# Altium footprint library 贴片元器件.PCBLIB: 208 footprints (part 10 of 13)
Each footprint in its own frame and in the unit in brackets; x right, y up, seen from the top. Pads: shape width x height; smd on the part's side, far side on the other; paste and mask are expansions set on the pad; w line width, h text height; cw(c..) or ccw(c..) is an arc to the next point about the centre after c.
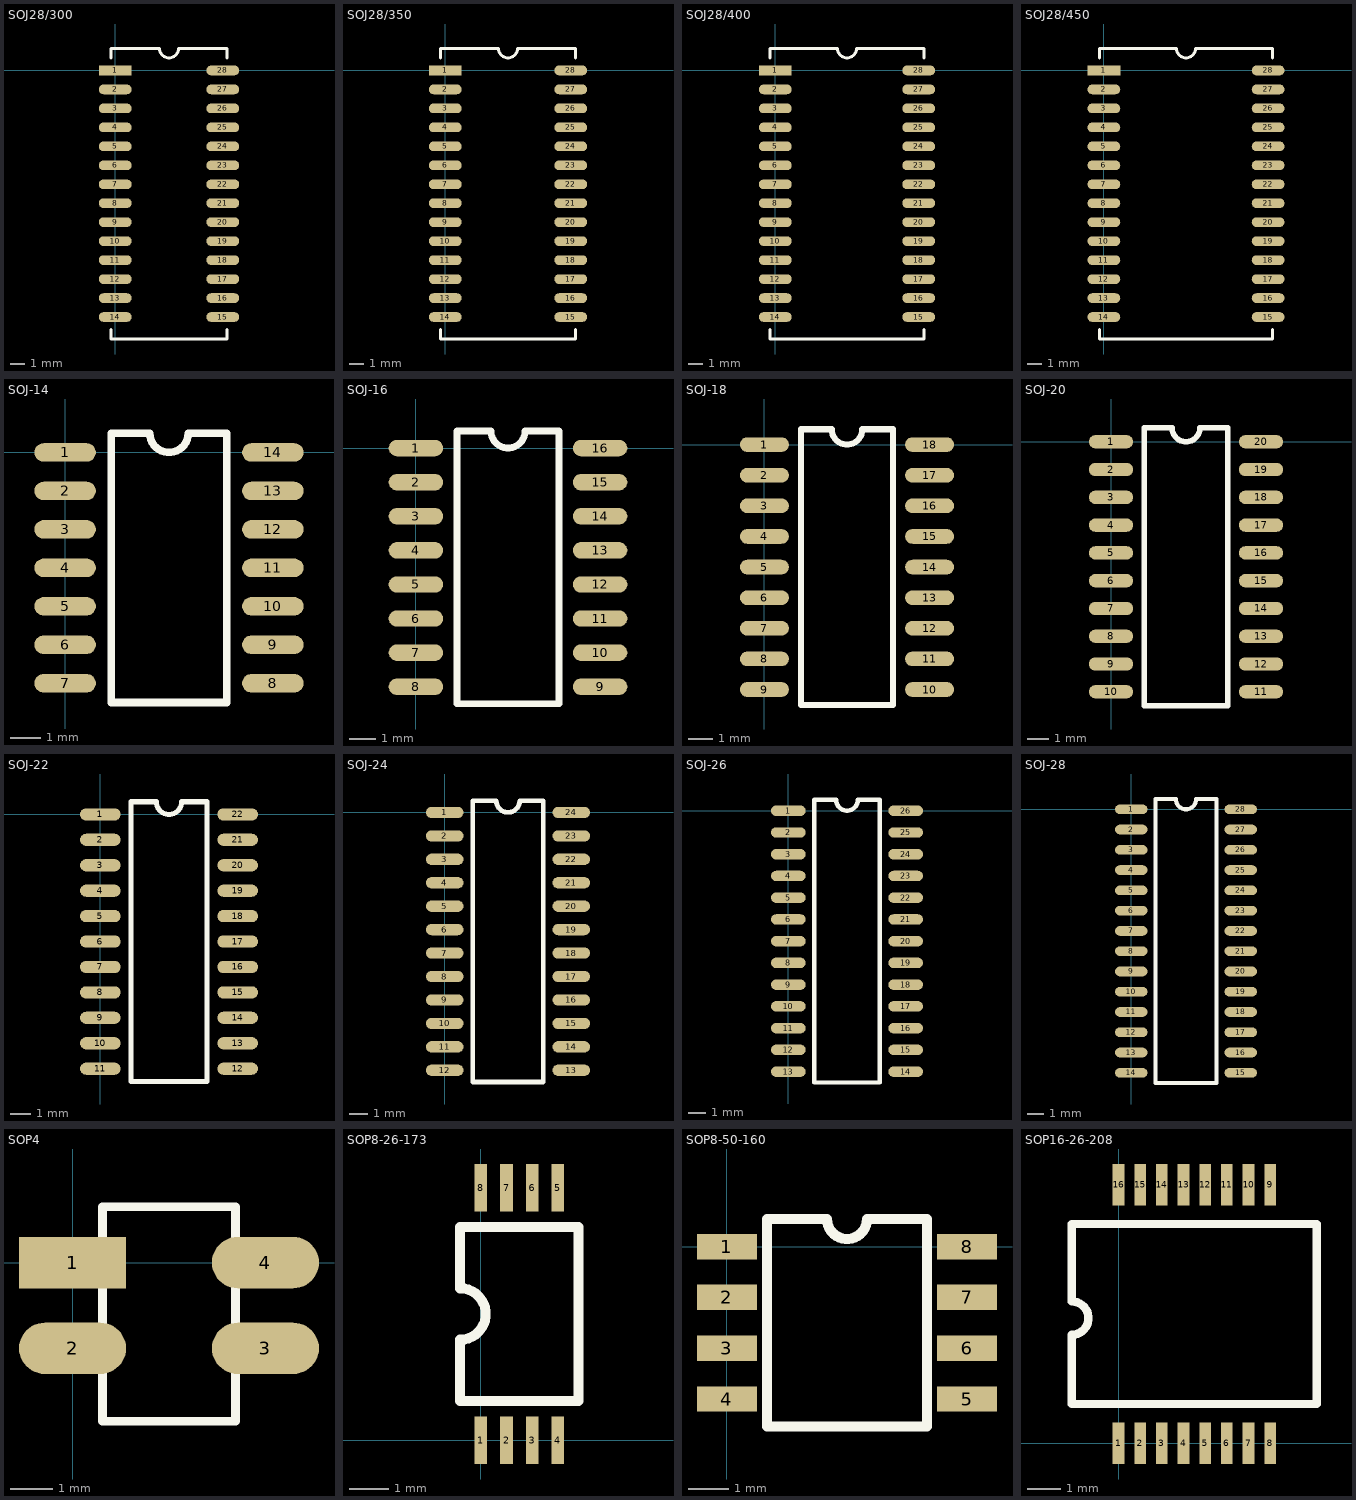
[diagram p9: the footprints below, top view; thin cyan lines are the x and y axes]

## SOJ28/300 [mm]
pads (28):
  rect 2.2x0.65 smd: 1(0,0)
  oval 2.2x0.65 smd: 2(0,-1.27) 3(0,-2.54) 4(0,-3.81) 5(0,-5.08) 6(0,-6.35) 7(0,-7.62) 8(0,-8.89) 9(0,-10.16) 10(0,-11.43) 11(0,-12.7) 12(0,-13.97) 13(0,-15.24) 14(0,-16.51) 15(7.2,-16.51) 16(7.2,-15.24) 17(7.2,-13.97) 18(7.2,-12.7) 19(7.2,-11.43) 20(7.2,-10.16) 21(7.2,-8.89) 22(7.2,-7.62) 23(7.2,-6.35) 24(7.2,-5.08) 25(7.2,-3.81) 26(7.2,-2.54) 27(7.2,-1.27) 28(7.2,0)
TopOverlay:
  lines w0.2: -0.275,-17.335 -0.275,-17.98 7.475,-17.98 7.475,-17.335 ; -0.275,0.825 -0.275,1.47 2.965,1.47 ccw(c3.6,1.47) 4.235,1.47 7.475,1.47 7.475,0.825

## SOJ28/350 [mm]
pads (28):
  rect 2.2x0.65 smd: 1(0,0)
  oval 2.2x0.65 smd: 2(0,-1.27) 3(0,-2.54) 4(0,-3.81) 5(0,-5.08) 6(0,-6.35) 7(0,-7.62) 8(0,-8.89) 9(0,-10.16) 10(0,-11.43) 11(0,-12.7) 12(0,-13.97) 13(0,-15.24) 14(0,-16.51) 15(8.4,-16.51) 16(8.4,-15.24) 17(8.4,-13.97) 18(8.4,-12.7) 19(8.4,-11.43) 20(8.4,-10.16) 21(8.4,-8.89) 22(8.4,-7.62) 23(8.4,-6.35) 24(8.4,-5.08) 25(8.4,-3.81) 26(8.4,-2.54) 27(8.4,-1.27) 28(8.4,0)
TopOverlay:
  lines w0.2: -0.31,-17.335 -0.31,-17.98 8.71,-17.98 8.71,-17.335 ; -0.31,0.825 -0.31,1.47 3.565,1.47 ccw(c4.2,1.47) 4.835,1.47 8.71,1.47 8.71,0.825

## SOJ28/400 [mm]
pads (28):
  rect 2.2x0.65 smd: 1(0,0)
  oval 2.2x0.65 smd: 2(0,-1.27) 3(0,-2.54) 4(0,-3.81) 5(0,-5.08) 6(0,-6.35) 7(0,-7.62) 8(0,-8.89) 9(0,-10.16) 10(0,-11.43) 11(0,-12.7) 12(0,-13.97) 13(0,-15.24) 14(0,-16.51) 15(9.6,-16.51) 16(9.6,-15.24) 17(9.6,-13.97) 18(9.6,-12.7) 19(9.6,-11.43) 20(9.6,-10.16) 21(9.6,-8.89) 22(9.6,-7.62) 23(9.6,-6.35) 24(9.6,-5.08) 25(9.6,-3.81) 26(9.6,-2.54) 27(9.6,-1.27) 28(9.6,0)
TopOverlay:
  lines w0.2: -0.345,-17.335 -0.345,-17.98 9.945,-17.98 9.945,-17.335 ; -0.345,0.825 -0.345,1.47 4.165,1.47 ccw(c4.8,1.47) 5.435,1.47 9.945,1.47 9.945,0.825

## SOJ28/450 [mm]
pads (28):
  rect 2.2x0.65 smd: 1(0,0)
  oval 2.2x0.65 smd: 2(0,-1.27) 3(0,-2.54) 4(0,-3.81) 5(0,-5.08) 6(0,-6.35) 7(0,-7.62) 8(0,-8.89) 9(0,-10.16) 10(0,-11.43) 11(0,-12.7) 12(0,-13.97) 13(0,-15.24) 14(0,-16.51) 15(11,-16.51) 16(11,-15.24) 17(11,-13.97) 18(11,-12.7) 19(11,-11.43) 20(11,-10.16) 21(11,-8.89) 22(11,-7.62) 23(11,-6.35) 24(11,-5.08) 25(11,-3.81) 26(11,-2.54) 27(11,-1.27) 28(11,0)
TopOverlay:
  lines w0.2: -0.28,-17.335 -0.28,-17.98 11.28,-17.98 11.28,-17.335 ; -0.28,0.825 -0.28,1.47 4.865,1.47 ccw(c5.5,1.47) 6.135,1.47 11.28,1.47 11.28,0.825

## SOJ-14 [mil]
pads (14):
  oval 80x24 smd: 1(0,0) 2(0,-50) 3(0,-100) 4(0,-150) 5(0,-200) 6(0,-250) 7(0,-300) 8(270,-300) 9(270,-250) 10(270,-200) 11(270,-150) 12(270,-100) 13(270,-50) 14(270,0)
TopOverlay:
  lines w10: 60,-325 210,-325 210,25 160,25 cw(c135,25) 110,25 60,25 60,-325

## SOJ-16 [mil]
pads (16):
  oval 80x24 smd: 1(0,0) 2(0,-50) 3(0,-100) 4(0,-150) 5(0,-200) 6(0,-250) 7(0,-300) 8(0,-350) 9(270,-350) 10(270,-300) 11(270,-250) 12(270,-200) 13(270,-150) 14(270,-100) 15(270,-50) 16(270,0)
TopOverlay:
  lines w10: 60,-375 60,25 110,25 ccw(c135,25) 160,25 210,25 210,-375 60,-375

## SOJ-18 [mil]
pads (18):
  oval 80x24 smd: 1(0,0) 2(0,-50) 3(0,-100) 4(0,-150) 5(0,-200) 6(0,-250) 7(0,-300) 8(0,-350) 9(0,-400) 10(270,-400) 11(270,-350) 12(270,-300) 13(270,-250) 14(270,-200) 15(270,-150) 16(270,-100) 17(270,-50) 18(270,0)
TopOverlay:
  lines w10: 60,-425 210,-425 210,25 160,25 cw(c135,25) 110,25 60,25 60,-425

## SOJ-20 [mil]
pads (20):
  oval 80x24 smd: 1(0,0) 2(0,-50) 3(0,-100) 4(0,-150) 5(0,-200) 6(0,-250) 7(0,-300) 8(0,-350) 9(0,-400) 10(0,-450) 11(270,-450) 12(270,-400) 13(270,-350) 14(270,-300) 15(270,-250) 16(270,-200) 17(270,-150) 18(270,-100) 19(270,-50) 20(270,0)
TopOverlay:
  lines w10: 60,-475 60,25 110,25 ccw(c135,25) 160,25 210,25 210,-475 60,-475

## SOJ-22 [mil]
pads (22):
  oval 80x24 smd: 1(0,0) 2(0,-50) 3(0,-100) 4(0,-150) 5(0,-200) 6(0,-250) 7(0,-300) 8(0,-350) 9(0,-400) 10(0,-450) 11(0,-500) 12(270,-500) 13(270,-450) 14(270,-400) 15(270,-350) 16(270,-300) 17(270,-250) 18(270,-200) 19(270,-150) 20(270,-100) 21(270,-50) 22(270,0)
TopOverlay:
  lines w10: 60,-525 210,-525 210,25 160,25 cw(c135,25) 110,25 60,25 60,-525

## SOJ-24 [mil]
pads (24):
  oval 80x24 smd: 1(0,0) 2(0,-50) 3(0,-100) 4(0,-150) 5(0,-200) 6(0,-250) 7(0,-300) 8(0,-350) 9(0,-400) 10(0,-450) 11(0,-500) 12(0,-550) 13(270,-550) 14(270,-500) 15(270,-450) 16(270,-400) 17(270,-350) 18(270,-300) 19(270,-250) 20(270,-200) 21(270,-150) 22(270,-100) 23(270,-50) 24(270,0)
TopOverlay:
  lines w10: 60,-575 60,25 110,25 ccw(c135,25) 160,25 210,25 210,-575 60,-575

## SOJ-26 [mil]
pads (26):
  oval 80x24 smd: 1(0,0) 2(0,-50) 3(0,-100) 4(0,-150) 5(0,-200) 6(0,-250) 7(0,-300) 8(0,-350) 9(0,-400) 10(0,-450) 11(0,-500) 12(0,-550) 13(0,-600) 14(270,-600) 15(270,-550) 16(270,-500) 17(270,-450) 18(270,-400) 19(270,-350) 20(270,-300) 21(270,-250) 22(270,-200) 23(270,-150) 24(270,-100) 25(270,-50) 26(270,0)
TopOverlay:
  lines w10: 60,-625 210,-625 210,25 160,25 cw(c135,25) 110,25 60,25 60,-625

## SOJ-28 [mil]
pads (28):
  oval 80x24 smd: 1(0,0) 2(0,-50) 3(0,-100) 4(0,-150) 5(0,-200) 6(0,-250) 7(0,-300) 8(0,-350) 9(0,-400) 10(0,-450) 11(0,-500) 12(0,-550) 13(0,-600) 14(0,-650) 15(270,-650) 16(270,-600) 17(270,-550) 18(270,-500) 19(270,-450) 20(270,-400) 21(270,-350) 22(270,-300) 23(270,-250) 24(270,-200) 25(270,-150) 26(270,-100) 27(270,-50) 28(270,0)
TopOverlay:
  lines w10: 60,-675 210,-675 210,25 160,25 cw(c135,25) 110,25 60,25 60,-675

## SOP4 [mm]
pads (4):
  rect 2.5x1.2 smd: 1(0,0)
  oval 2.5x1.2 smd: 2(0,-2) 3(4.5,-2) 4(4.5,0)
TopOverlay:
  lines w0.203: 0.7,-3.7 3.8,-3.7 3.8,1.3 0.7,1.3 0.7,-3.7

## SOP8-26-173 [mm]
pads (8):
  rect 0.32x1.2 smd: 1(0,0) 2(0.65,0) 3(1.3,0) 4(1.95,0) 5(1.95,6.4) 6(1.3,6.4) 7(0.65,6.4) 8(0,6.4)
TopOverlay:
  lines w0.254: -0.525,1 -0.525,2.55 ccw(c-0.525,3.2) -0.525,3.85 -0.525,5.4 2.475,5.4 2.475,1 -0.525,1

## SOP8-50-160 [mm]
pads (8):
  rect 1.5x0.635 smd: 1(0,0) 2(0,-1.27) 3(0,-2.54) 4(0,-3.81) 5(6,-3.81) 6(6,-2.54) 7(6,-1.27) 8(6,0)
TopOverlay:
  lines w0.254: 1,-4.5 5,-4.5 5,0.69 3.5,0.69 cw(c3,0.69) 2.5,0.69 1,0.69 1,-4.5

## SOP16-26-208 [mm]
pads (16):
  rect 0.35x1.25 smd: 1(0,0) 2(0.65,0) 3(1.3,0) 4(1.95,0) 5(2.6,0) 6(3.25,0) 7(3.9,0) 8(4.55,0) 9(4.55,7.75) 10(3.9,7.75) 11(3.25,7.75) 12(2.6,7.75) 13(1.95,7.75) 14(1.3,7.75) 15(0.65,7.75) 16(0,7.75)
TopOverlay:
  lines w0.254: -1.4,1.175 5.95,1.175 5.95,6.575 -1.4,6.575 -1.4,4.25 cw(c-1.4,3.75) -1.4,3.25 -1.4,1.175